# Altium schematic symbol library HEADER_1x6.Schlib: 1 symbol
Pins are listed as number, name and electrical type; pins without a type are passive.

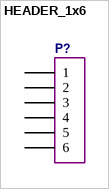
[diagram p0: symbol HEADER_1x6]

## HEADER_1x6
designator P?  (value not drawn)
Header, 6-Pin
pins: 1, 2, 3, 4, 5, 6